# EAGLE library part USB-OTG (library xmaker)
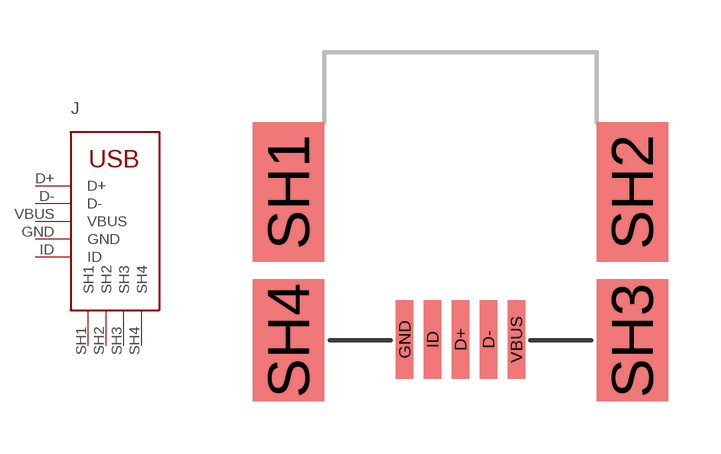
[diagram p10: symbol with the pads of 56579-0576; footprint 56579-0576]

Designator prefix J

## USB-OTGMOLEX  [56579-0576]
D+  D+
D-  D-
GND  GND
ID  ID
SH1  SH1
SH2  SH2
SH3  SH3
SH4  SH4
VBUS  VBUS

## Footprint 56579-0576 (pad centres in mm)
Molex
smd 0.5 x 2.25: D+ 0,-3.725; D- 0.8,-3.725; GND -1.6,-3.725; ID -0.8,-3.725; VBUS 1.6,-3.725
smd 2.05 x 4: SH1 -4.925,0.5; SH2 4.925,0.5
smd 2.05 x 3.5: SH3 4.925,-3.75; SH4 -4.925,-3.75